# EAGLE library part PROG-HEADER_2X8 (library angrypig7-Connectors-Programming)
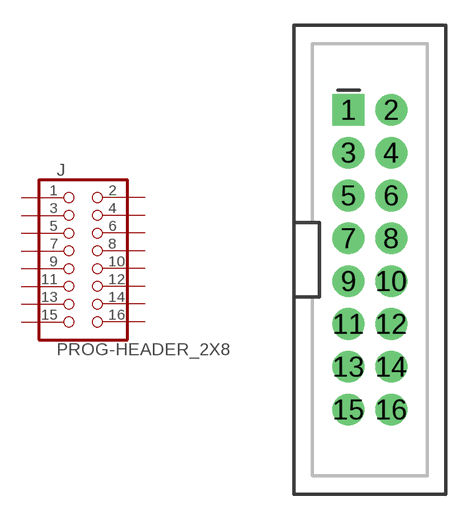
[diagram p7: symbol with the pads of 2X8-2.54MM-SHROUDED; footprint 2X8-2.54MM-SHROUDED]

Designator prefix J

## PROG-HEADER_2X8_SHROUDED  [2X8-2.54MM-SHROUDED]
1  1  pas
2  2  pwr
3  3  pas
4  4  pwr
5  5  pas
6  6  pwr
7  7  pas
8  8  pwr
9  9  pas
10  10  pwr
11  11  pas
12  12  pwr
13  13  pas
14  14  pwr
15  15  pas
16  16  pwr

## Footprint 2X8-2.54MM-SHROUDED (pad centres in mm)
drill 1.016 pad 1.88 square: 1 -1.27,8.89
drill 1.016 pad 1.88: 2 1.27,8.89; 3 -1.27,6.35; 4 1.27,6.35; 5 -1.27,3.81; 6 1.27,3.81; 7 -1.27,1.27; 8 1.27,1.27; 9 -1.27,-1.27; 10 1.27,-1.27; 11 -1.27,-3.81; 12 1.27,-3.81; 13 -1.27,-6.35; 14 1.27,-6.35; 15 -1.27,-8.89; 16 1.27,-8.89